# EAGLE library part V__VFD48-1202FN (library ++Bedrahtet)
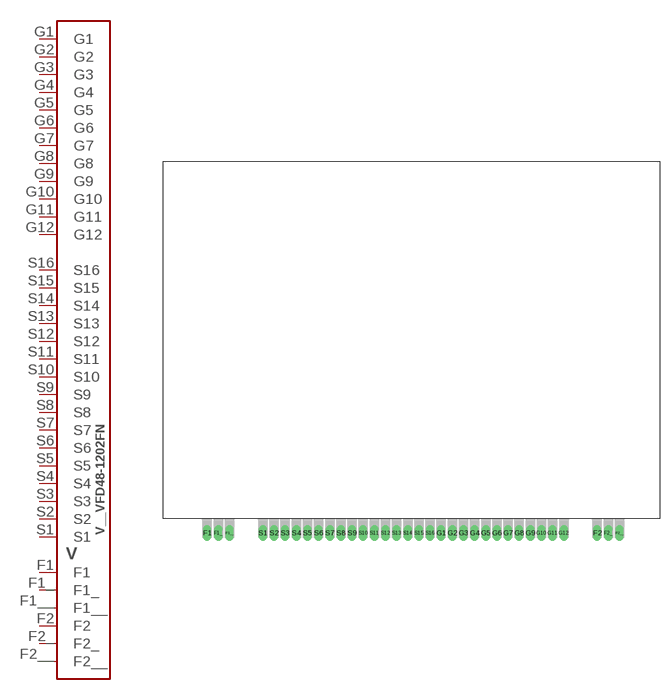
[diagram p37: symbol with the pads of VFD_VFD48-1202FN; footprint VFD_VFD48-1202FN]

Designator prefix V

## V__VFD48-1202FN  [VFD_VFD48-1202FN]
F1  F1
F1_  F1_
F1__  F1__
F2  F2
F2_  F2_
F2__  F2__
G1  G1
G2  G2
G3  G3
G4  G4
G5  G5
G6  G6
G7  G7
G8  G8
G9  G9
G10  G10
G11  G11
G12  G12
S1  S1
S2  S2
S3  S3
S4  S4
S5  S5
S6  S6
S7  S7
S8  S8
S9  S9
S10  S10
S11  S11
S12  S12
S13  S13
S14  S14
S15  S15
S16  S16

## Footprint VFD_VFD48-1202FN (pad centres in mm)
drill 0.6 long: F1 0,0; F1_ 1.5,0; F1__ 3,0; F2 52.5,0; F2_ 54,0; F2__ 55.5,0; G1 31.5,0; G2 33,0; G3 34.5,0; G4 36,0; G5 37.5,0; G6 39,0; G7 40.5,0; G8 42,0; G9 43.5,0; G10 45,0; G11 46.5,0; G12 48,0; S1 7.5,0; S2 9,0; S3 10.5,0; S4 12,0; S5 13.5,0; S6 15,0; S7 16.5,0; S8 18,0; S9 19.5,0; S10 21,0; S11 22.5,0; S12 24,0; S13 25.5,0; S14 27,0; S15 28.5,0; S16 30,0